# Altium footprint library Datalogger.PcbLib: 24 footprints (part 1 of 2)
Each footprint in its own frame and in the unit in brackets; x right, y up, seen from the top. Pads: shape width x height; smd on the part's side, far side on the other; paste and mask are expansions set on the pad; w line width, h text height; cw(c..) or ccw(c..) is an arc to the next point about the centre after c.
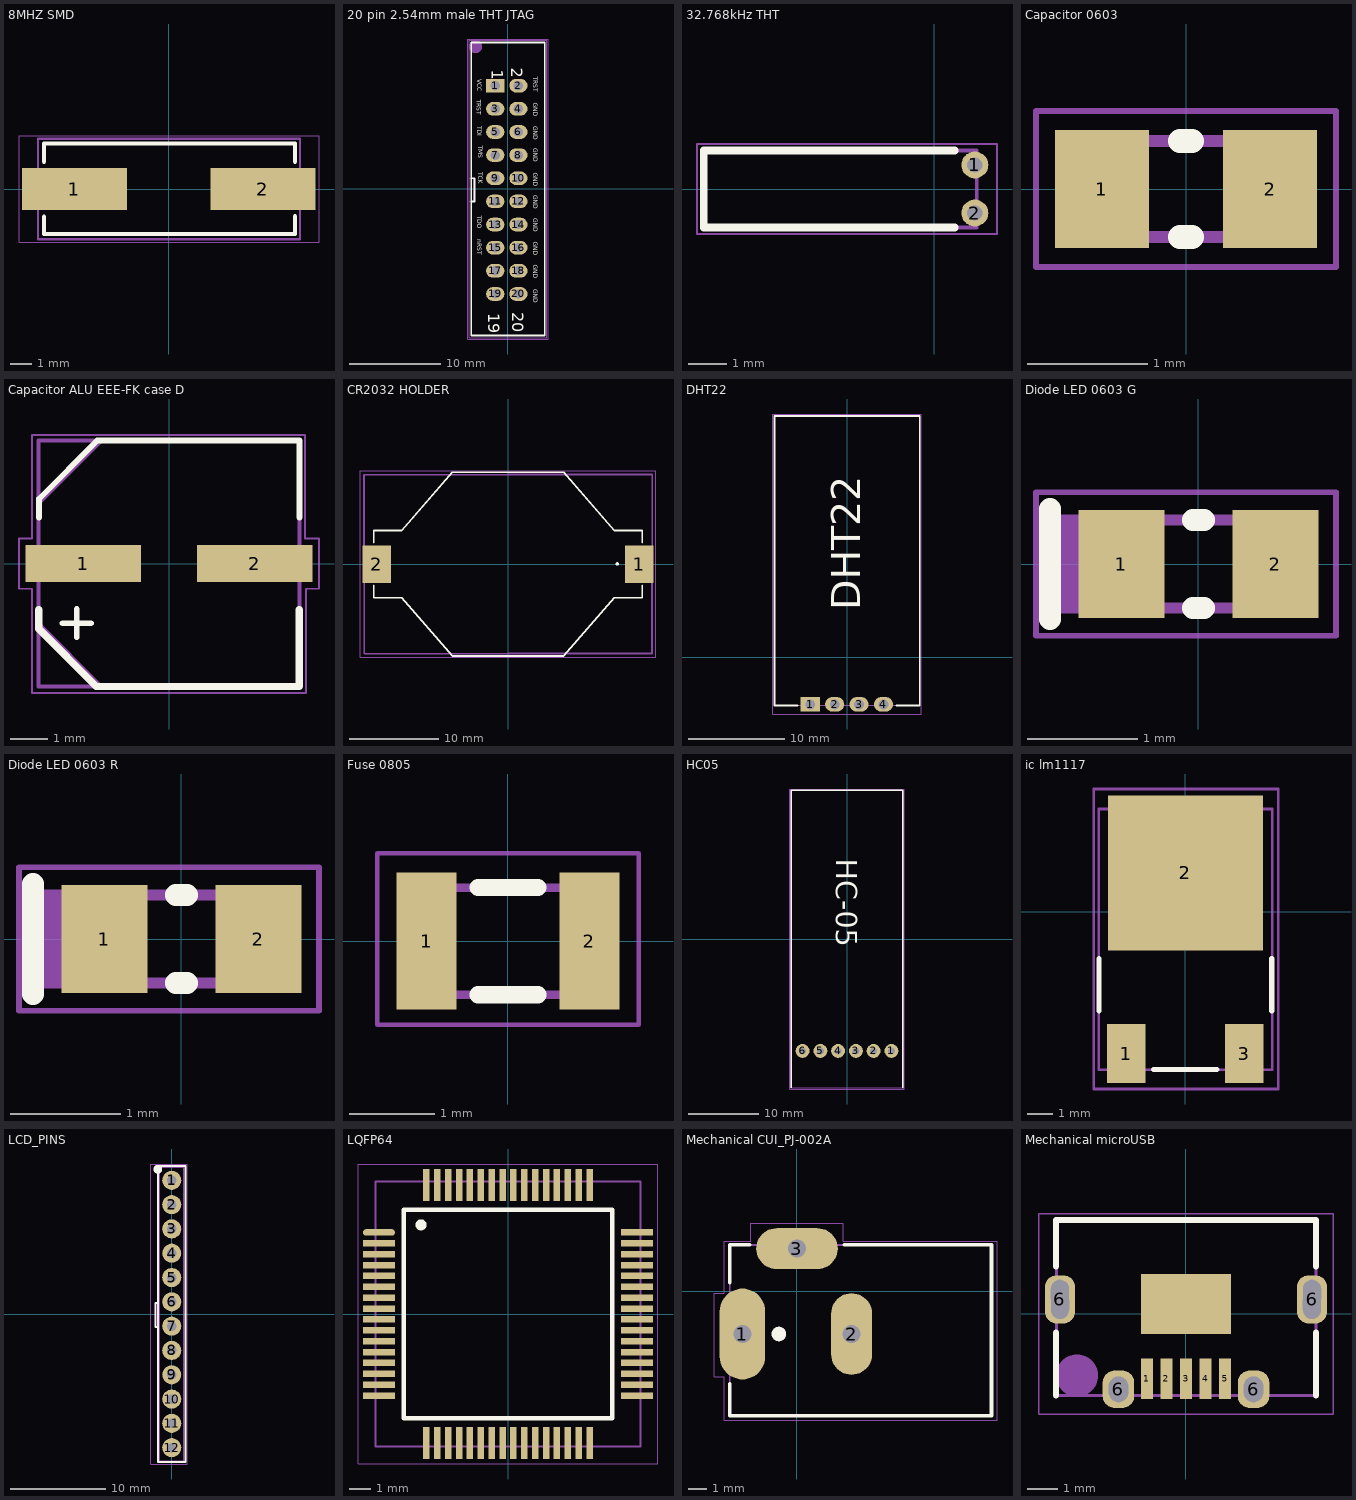
[diagram p0: the footprints below, top view; thin cyan lines are the x and y axes]

## 8MHZ SMD [mm]
pads (2):
  rect 5x2 smd: 1(-4.5,0) 2(4.5,0)
Top Overlay:
  lines w0.2: -5.95,-1.325 -5.95,-2.15 6.025,-2.15 6.025,-1.3 ; -5.95,1.3 -5.95,2.175 6.025,2.175 6.025,1.3
Mechanical 13:
  lines w0.1: 6.25,-2.4 -6.25,-2.4 -6.25,2.4 6.25,2.4 ; 6.275,-2.4 6.275,2.4
  text "'.Designator'" at -3,1.3 h0.5
Mechanical 15:
  lines w0.05: -7.15,-2.55 7.175,-2.55 7.175,0 7.175,2.55 -7.15,2.55 -7.15,0 -7.15,-2.55
3D body "8MHZ_SMD.step": height 4, standoff 0, extent -6.25,-2.4 6.25,2.4

## 20 pin 2.54mm male THT JTAG [mm]
pads (20):
  rect 2x1.5 hole 1.02: 1(-1.4,11.325)
  oval 2x1.5 hole 1.02: 2(1.14,11.325) 3(-1.4,8.785) 4(1.14,8.785) 5(-1.4,6.245) 6(1.14,6.245) 7(-1.4,3.705) 8(1.14,3.705) 9(-1.4,1.165) 10(1.14,1.165) 11(-1.4,-1.375) 12(1.14,-1.375) 13(-1.4,-3.915) 14(1.14,-3.915) 15(-1.4,-6.455) 16(1.14,-6.455) 17(-1.4,-8.995) 18(1.14,-8.995) 19(-1.4,-11.535) 20(1.14,-11.535)
Top Overlay:
  lines w0.2: -3.937,-1.375 -3.662,-1.375 -3.662,1.165 -3.937,1.165 ; -4.025,-16.1 -4.025,16.075 4.025,16.075 4.025,-16.1 -4.025,-16.1
  text "19" at -2.15,-13.625 h1.27
  text "20" at 0.475,-13.525 h1.27
  text "2" at 0.362,13.32 h1.27
  text "1" at -1.775,13.1 h1.27
  text "VCC" at -3.4,12.025 h0.5
  text "TRST" at -3.425,9.8 h0.5
  text "TDI" at -3.35,6.9 h0.5
  text "TMS" at -3.275,4.725 h0.5
  text "TCK" at -3.275,1.825 h0.5
  text "TDO" at -3.4,-2.975 h0.5
  text "nRST" at -3.35,-5.525 h0.5
  text "TRST" at 2.75,12.325 h0.5
  text "GND" at 2.75,9.475 h0.5
  text "GND" at 2.75,6.85 h0.5
  text "GND" at 2.75,4.45 h0.5
  text "GND" at 2.75,1.775 h0.5
  text "GND" at 2.75,-0.7 h0.5
  text "GND" at 2.75,-3.25 h0.5
  text "GND" at 2.75,-5.775 h0.5
  text "GND" at 2.75,-8.35 h0.5
  text "GND" at 2.75,-11.025 h0.5
Mechanical 13:
  lines w0.1: -4.267,-1.372 -3.683,-1.372 -3.683,1.168 -4.267,1.168 ; -4.275,-16.35 -4.275,16.325 4.275,16.325 4.275,-16.35 -4.275,-16.35
  lines w1: -3.356,15.596 cw(c-3.556,15.596) -3.357,15.617
  text ".Designator" at -0.45,8.5 h1.5
Mechanical 15:
  lines w0.05: -4.4,-16.475 -4.4,16.45 4.4,16.45 4.4,-16.475 -4.4,-16.475
3D body "idc-20_asm.STEP": height 8.5, standoff -3.7, extent -4.25,-16.375 4.25,16.325

## 32.768kHz THT [mm]
pads (2):
  round 0.7 hole 0.4: 1(1.05,0.625) 2(1.05,-0.625)
Top Overlay:
  lines w0.2: 0.525,-1 -6,-1 -6,1 0.525,1
Mechanical 13:
  lines w0.1: -6,-1 -6,1 1.1,1 1.1,-1 -6,-1
  text "'.Designator'" at -3,0 h0.76
Mechanical 15:
  lines w0.05: -6.175,-1.175 1.625,-1.175 1.625,1.175 -6.175,1.175 -6.175,-1.175
3D body "Crystals 32kHz.step": height 2, standoff -2, extent -6,-1 1.14,1

## Capacitor 0603 [mm]
pads (2):
  rect 0.78x0.98 smd: 1(-0.7,0) 2(0.7,0)
Top Overlay:
  lines w0.2: -0.05,-0.4 0.05,-0.4 ; -0.05,0.4 0.05,0.4
Mechanical 13:
  lines w0.1: -0.8,-0.4 0.8,-0.4 0.8,0.4 -0.8,0.4 -0.8,-0.4
  text ".Designator" at -0.635,-0.203 h0.4
Mechanical 15:
  lines w0.05: -1.25,-0.65 1.25,-0.65 1.25,0.65 -1.25,0.65 -1.25,-0.65
3D body "User Library-SMD CAPACITOR.step": height 0.8, standoff 0, extent -0.8,-0.4 0.8,0.4

## Capacitor ALU EEE-FK case D [mm]
pads (2):
  rect 3.1x1 smd: 1(-2.3,0) 2(2.3,0)
Top Overlay:
  lines w0.152: -3.49,1.234 -3.49,1.735 -1.925,3.3 3.5,3.3 3.5,1.234 ; -2.856,-1.6 -2.094,-1.6 ; -2.475,-1.981 -2.475,-1.219
  lines w0.2: -3.5,-1.234 -3.5,-1.75 -1.95,-3.3 3.5,-3.3 3.5,-1.234
Mechanical 13:
  lines w0.1: -3.49,-1.615 -1.815,-3.29 ; -3.49,1.615 -1.815,3.29 ; -2.856,-1.6 -2.094,-1.6 ; -2.475,-1.981 -2.475,-1.219 ; -3.5,-3.3 -3.5,3.3 3.5,3.3 3.5,-3.3 -3.5,-3.3
  text ".Designator" at -3.911,-0.483 h1.5
Mechanical 15:
  lines w0.05: -4.025,-0.675 -3.675,-0.675 -3.675,-3.475 3.675,-3.475 3.675,-0.675 4.025,-0.675 4.025,0.675 3.65,0.675 3.65,3.45 -3.675,3.45 -3.675,0.675 -4.025,0.675 -4.025,-0.675
3D body "User Library-capacitor size D.step": height 5.41, standoff -0.01, extent -3.5,-3.3 3.5,3.3

## CR2032 HOLDER [mm]
pads (2):
  rect 3.2x4.2 smd: 1(14.65,0) 2(-14.65,0)
Top Overlay:
  lines w0.2: -15,-2.4 -15,-3.75 -11.882,-3.75 -6.228,-10.25 0,-10.25 6.228,-10.25 11.882,-3.75 15,-3.75 15,-2.4 ; -15,2.4 -15,3.75 -11.882,3.75 -6.228,10.25 0,10.25 6.228,10.25 11.882,3.75 15,3.75 15,2.4 ; 12.2,-0.075 ccw(c12.2,0.025) 12.2,0.125 ccw(c12.2,0.025) 12.2,-0.075
Mechanical 13:
  lines w0.2: -16.075,-0.025 -16.075,9.975 ; -16.05,-10 -16.05,0 ; -16.05,9.975 -0.025,9.975 ; -16.025,-10 0,-10 ; 0.025,-9.975 16.05,-9.975 ; 0.05,10 16.075,10 ; 16.075,-9.975 16.075,0.025 ; 16.1,0 16.1,10
  text "'.Designator'" at 0.025,-0.025 h0.76
Mechanical 15:
  lines w0.1: -16.5,-10.425 16.5,-10.425 16.5,10.45 -16.5,10.45 -16.5,-10.425
3D body "Mechanical CR2032.step": height 5.3, standoff 0, extent -16,-10 16,10

## DHT22 [mm]
pads (4):
  rect 2x1.5 hole 1.02: 1(-3.85,-4.9)
  oval 2x1.5 hole 1.02: 2(-1.31,-4.9) 3(1.23,-4.9) 4(3.77,-4.9)
Top Overlay:
  lines w0.2: -5.175,-5 -7.55,-5 -7.55,25.1 7.55,25.1 7.55,-5 5.125,-5
  text "DHT22" at 1.375,4.875 h3
Mechanical 13:
  lines w0.1: -7.55,-5 -1.95,-5 -0.775,-5 7.55,-5 7.55,25.1 -0.5,25.1 -7.55,25.1 -7.55,-5
  text ".Designator" at -0.775,-0.2 h0.5
Mechanical 15:
  lines w0.1: -7.775,-5.9 7.725,-5.9 7.725,25.325 -7.775,25.325 -7.775,-5.9
3D body "User Library-DHT22_HOR.step": height 8.01, standoff -1.25, extent -7.55,-5 7.55,25.1

## Diode LED 0603 G [mm]
pads (2):
  rect 0.78x0.98 smd: 1(-0.7,0) 2(0.7,0)
Top Overlay:
  lines w0.2: -1.35,-0.5 -1.35,0.5 ; -0.05,-0.4 0.05,-0.4 ; -0.05,0.4 0.05,0.4
Mechanical 13:
  rectangle: -1.3,-0.4 -0.8,0.4
  lines w0.1: -0.5,-0.4 -1.3,-0.4 -1.3,0.4 -0.5,0.4 ; -0.8,-0.4 0.8,-0.4 0.8,0.4 -0.8,0.4 -0.8,-0.4
  text ".Designator" at -0.775,-0.2 h0.5
Mechanical 15:
  lines w0.05: -1.475,-0.65 1.25,-0.65 1.25,0.65 -1.475,0.65 -1.475,-0.65
3D body "User Library-LED_0603_G.STEP": height 0.6, standoff 0, extent -0.8,-0.4 0.8,0.4

## Diode LED 0603 R [mm]
pads (2):
  rect 0.78x0.98 smd: 1(-0.7,0) 2(0.7,0)
Top Overlay:
  lines w0.2: -1.35,-0.5 -1.35,0.5 ; -0.05,-0.4 0.05,-0.4 ; -0.05,0.4 0.05,0.4
Mechanical 13:
  rectangle: -1.3,-0.4 -0.8,0.4
  lines w0.1: -0.5,-0.4 -1.3,-0.4 -1.3,0.4 -0.5,0.4 ; -0.8,-0.4 0.8,-0.4 0.8,0.4 -0.8,0.4 -0.8,-0.4
  text ".Designator" at -0.775,-0.2 h0.5
Mechanical 15:
  lines w0.05: -1.475,-0.65 1.25,-0.65 1.25,0.65 -1.475,0.65 -1.475,-0.65
3D body "User Library-LED_0603_R.STEP": height 0.6, standoff 0, extent -0.8,-0.4 0.8,0.4

## Fuse 0805 [mm]
pads (2):
  rect 0.7x1.6 smd: 1(-0.95,0) 2(0.95,0)
Top Overlay:
  lines w0.2: -0.35,-0.625 0.35,-0.625 ; -0.35,0.625 0.35,0.625
Mechanical 13:
  lines w0.1: -1,-0.625 1.075,-0.625 1.075,0.625 -1,0.625 -1,-0.625
  text "'.Designator'" at 0,0 h0.76
Mechanical 15:
  lines w0.05: -1.525,-0.975 1.525,-0.975 1.525,1.025 -1.525,1.025 -1.525,-0.975
3D body "Fuses SMD 0603.step": height 0.75, standoff 0, extent -0.8,-0.375 0.8,0.375

## HC05 [mm]
pads (6):
  round 2 hole 1: 1(6.35,-16) 2(3.81,-16) 3(1.27,-16) 4(-1.27,-16) 5(-3.81,-16) 6(-6.35,-16)
Top Overlay:
  lines w0.2: -8,-21.25 -8,21.25 8,21.25 8,-21.25
  text "HC-05" at -1.55,11.5 h3
Mechanical 13:
  lines w0.1: -8.05,-21.3 -8.05,21.3 8.05,21.3 8.05,-21.3 -8.05,-21.3
  text "'.Designator'" at 0.45,-4.25 h0.76
Mechanical 15:
  lines w0.05: -8.2,-21.45 -8.2,21.45 8.2,21.45 8.2,-21.45 -8.2,-21.45
3D body "User Library-hc05.step": height 6.9, standoff 1, extent -8.05,-21.3 8.05,21.3

## ic lm1117 [mm]
pads (3):
  rect 1.5x2.3 smd: 1(-2.285,-5.5) 3(2.285,-5.5)
  rect 6x6 smd: 2(0,1.5)
Top Overlay:
  lines w0.2: -3.35,-3.85 -3.35,-1.825 ; -1.225,-6.125 1.225,-6.125 ; 3.35,-3.85 3.35,-1.825
Mechanical 13:
  lines w0.1: -3.35,-6.125 -3.35,3.975 3.375,3.975 3.375,-6.125 -3.35,-6.125
  text "'.Designator'" at 0.45,-4.25 h0.76
Mechanical 15:
  lines w0.1: -3.55,-6.875 -3.55,4.75 3.6,4.75 3.6,-6.875 -3.55,-6.875
3D body "User Library-DPAK_TO-252AA.step": height 2.37, standoff -0.03, extent -3.367,-6.098 3.367,4.002

## LCD_PINS [mm]
pads (12):
  round 2 hole 1: 1(0,13.97) 2(0,11.43) 3(0,8.89) 4(0,6.35) 5(0,3.81) 6(0,1.27) 7(0,-1.27) 8(0,-3.81) 9(0,-6.35) 10(0,-8.89) 11(0,-11.43) 12(0,-13.97)
Top Overlay:
  circle w0.4: c-1.45,15.125 r0.255
  lines w0.2: -1.45,-1.375 -1.725,-1.375 -1.725,1.165 -1.45,1.165 ; -1.425,-15.475 1.425,-15.475 1.425,15.475 -1.425,15.475 -1.425,-15.475
Mechanical 13:
  lines w0.1: -1.267,-1.372 -1.575,-1.372 -1.575,1.168 -1.267,1.168 ; -1.275,-15.325 -1.275,15.325 1.275,15.325 1.275,-15.325 -1.275,-15.325
  lines w0.2: -1.275,15.325 ccw(c-1.474,15.304) -1.274,15.304
  text ".Designator" at -0.45,8.5 h1.5
Mechanical 15:
  lines w0.05: -2.2,-15.675 1.625,-15.675 1.625,15.675 -2.2,15.675 -2.2,-15.675
3D body "User Library-Header Vertical 2_54mm Pitch2-1.step": height 5.94, standoff -2.94, extent -1.29,0 1.25,15.24
3D body "User Library-Header Vertical 2_54mm Pitch2-1.step": height 5.94, standoff -2.94, extent -1.25,-15.24 1.29,0

## LQFP64 [mm]
pads (64):
  oval 1.475x0.3 smd: 1(-5.938,3.75)
  rect 1.475x0.3 smd: 2(-5.938,3.25) 3(-5.938,2.75) 4(-5.938,2.25) 5(-5.938,1.75) 6(-5.938,1.25) 7(-5.938,0.75) 8(-5.938,0.25) 9(-5.938,-0.25) 10(-5.938,-0.75) 11(-5.938,-1.25) 12(-5.938,-1.75) 13(-5.938,-2.25) 14(-5.938,-2.75) 15(-5.938,-3.25) 16(-5.938,-3.75) 33(5.938,-3.75) 34(5.938,-3.25) 35(5.938,-2.75) 36(5.938,-2.25) 37(5.938,-1.75) 38(5.938,-1.25) 39(5.938,-0.75) 40(5.938,-0.25) 41(5.938,0.25) 42(5.938,0.75) 43(5.938,1.25) 44(5.938,1.75) 45(5.938,2.25) 46(5.938,2.75) 47(5.938,3.25) 48(5.938,3.75)
  rect 0.3x1.475 smd: 17(-3.75,-5.938) 18(-3.25,-5.938) 19(-2.75,-5.938) 20(-2.25,-5.938) 21(-1.75,-5.938) 22(-1.25,-5.938) 23(-0.75,-5.938) 24(-0.25,-5.938) 25(0.25,-5.938) 26(0.75,-5.938) 27(1.25,-5.938) 28(1.75,-5.938) 29(2.25,-5.938) 30(2.75,-5.938) 31(3.25,-5.938) 32(3.75,-5.938) 49(3.75,5.938) 50(3.25,5.938) 51(2.75,5.938) 52(2.25,5.938) 53(1.75,5.938) 54(1.25,5.938) 55(0.75,5.938) 56(0.25,5.938) 57(-0.25,5.938) 58(-0.75,5.938) 59(-1.25,5.938) 60(-1.75,5.938) 61(-2.25,5.938) 62(-2.75,5.938) 63(-3.25,5.938) 64(-3.75,5.938)
Top Overlay:
  circle w0.25: c-4,4.1 r0.125
  lines w0.2: -4.8,-4.8 -4.8,4.8 4.8,4.8 4.8,-4.8 -4.8,-4.8
Mechanical 13:
  lines w0.1: -6.1,-6.1 -6.1,6.1 6.1,6.1 6.1,3.856 6.1,1.106 6.1,-1.309 6.1,-3.831 6.1,-6.1 -6.1,-6.1
  text "'.Designator'" at 0,0 h0.76
Mechanical 15:
  lines w0.05: -6.9,-6.9 -6.9,6.9 6.9,6.9 6.9,-6.9 -6.9,-6.9
3D body "Integrated Circuit LQFP64.STEP": height 1.62, standoff -0.01, extent -6.072,-6.072 6.072,6.072

## Mechanical CUI_PJ-002A [mm]
pads (3):
  oval 2.5x5 hole 1 square: 1(-3,-2.35)
  oval 2.25x4.5 hole 1 square: 2(3,-2.35)
  oval 4.5x2.25 hole 1 square: 3(0,2.35)
Top Overlay:
  circle w0.4: c-1,-2.35 r0.2
  lines w0.2: -3.7,-5.1 -3.7,-6.85 10.7,-6.85 10.7,2.55 2.6,2.55 ; -3.7,0.475 -3.7,2.55 -2.6,2.55
Mechanical 13:
  lines w0.1: -3.7,-6.85 10.7,-6.85 10.7,2.55 -3.7,2.55 -3.7,-6.85
  lines w1: -2.619,-2.286 cw(c-2.819,-2.286) -2.62,-2.265
  text ".Designator" at -0.127,-2.87 h2
Mechanical 15:
  lines w0.05: -4.55,-4.7 -4.55,-0.1 -4,-0.1 -4,2.75 -2.55,2.75 -2.55,3.75 2.55,3.75 2.55,2.75 11,2.75 11,-7.1 -4,-7.1 -4,-4.7 -4.55,-4.7
3D body "CUI_DEVICES_PJ-002A.step": height 11, standoff -3.5, extent -3.675,-6.85 10.725,2.55

## Mechanical microUSB [mm]
pads (10):
  rect 0.4x1.35 smd: 1(-1.3,-2.166) 2(-0.65,-2.166) 3(0,-2.166) 4(0.65,-2.166) 5(1.3,-2.166)
  rrect75% 1x1.6 hole 1.3 slot 0.6 at 0.33 deg: 6(-4.2,0.484)
  rrect75% 1.05x1.25 hole 0.85 slot 0.65 at 0.33 deg: 6(-2.25,-2.516)
  rrect75% 1.05x1.25 hole 0.85 slot 0.65 at 179.67 deg: 6(2.25,-2.516)
  rrect75% 1x1.6 hole 1.3 slot 0.6 at 179.67 deg: 6(4.2,0.484)
  rect 3x2 smd: ""(0,0.334)
Top Overlay:
  lines w0.2: -4.325,-2.716 -4.325,-0.616 ; -4.325,1.584 -4.325,3.134 -0.925,3.134 4.325,3.134 4.325,1.584 ; 4.325,-2.716 4.325,-0.616
Mechanical 13:
  lines w0.1: -4.325,-2.716 -4.325,3.184 4.325,3.184 4.325,-2.716 -4.325,-2.716
  lines w1: -3.432,-2.057 cw(c-3.632,-2.057) -3.433,-2.036
  text ".Designator" at -3.75,-0.1 h1
Mechanical 15:
  lines w0.05: -4.9,-3.341 4.9,-3.341 4.9,3.334 -4.9,3.334 -4.9,-3.341
3D body "475900001.stp": height 2.71, standoff -0.65, extent -4.325,-2.716 4.325,3.184